# Altium footprint library PcbLib1.PcbLib: 10 footprints
Each footprint in its own frame and in the unit in brackets; x right, y up, seen from the top. Pads: shape width x height; smd on the part's side, far side on the other; paste and mask are expansions set on the pad; w line width, h text height; cw(c..) or ccw(c..) is an arc to the next point about the centre after c.
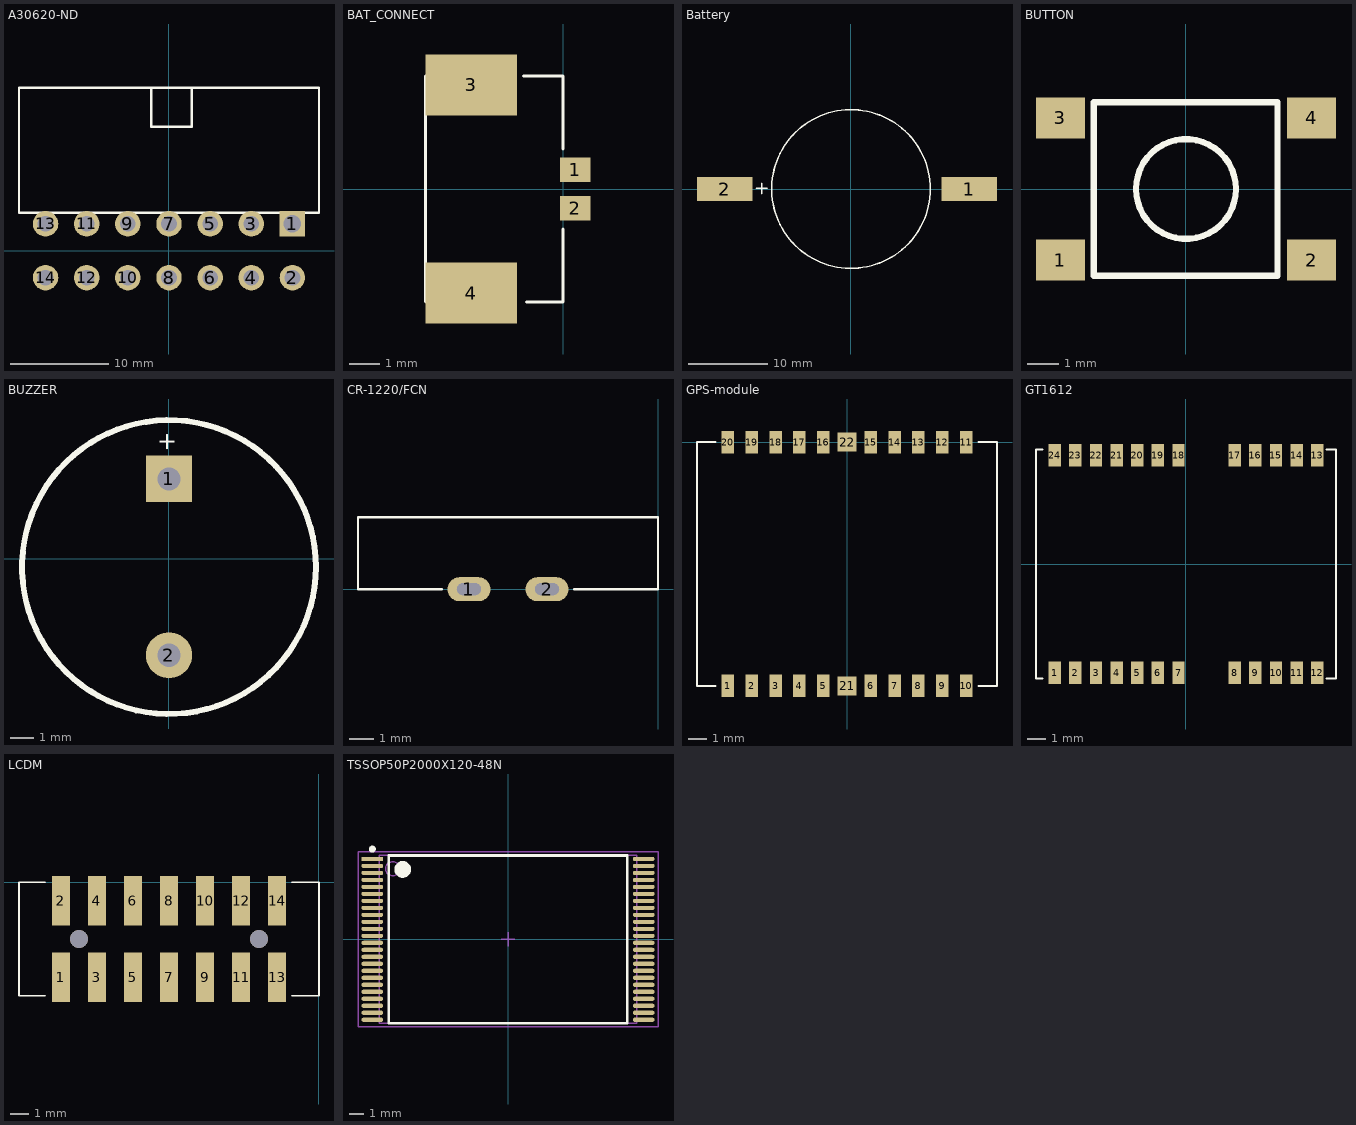
[diagram p0: the footprints below, top view; thin cyan lines are the x and y axes]

## A30620-ND [mm]
pads (14):
  rect 2.599x2.599 hole 1.8: 1(12.59,2.747)
  round 2.599 hole 1.599: 2(12.59,-2.747) 3(8.394,2.747) 4(8.394,-2.747) 5(4.198,2.747) 6(4.198,-2.747) 7(0.002,2.747) 8(0.002,-2.747) 9(-4.194,2.747) 10(-4.194,-2.747) 11(-8.39,2.747) 12(-8.39,-2.747) 13(-12.59,2.747) 14(-12.59,-2.747)
Top Overlay:
  lines w0.254: -1.798,16.634 -1.798,12.638 2.298,12.638 2.298,16.634 ; -15.298,3.847 -15.298,16.634 15.302,16.634 15.302,3.847 -15.298,3.847
3D body: height 12.8, standoff -2, extent -15.78,-3.28 15.32,16.855

## BAT_CONNECT [mm]
pads (4):
  rect 1x0.8 smd: 1(0.4,0.635) 2(0.4,-0.635)
  rect 3x2 smd: 3(-3,3.4) 4(-3,-3.4)
Top Overlay:
  lines w0.1: -4.5,3.69 -4.5,-3.67 -4.48,-3.69 ; -1.29,3.69 0,3.69 0,1.3 ; -1.19,-3.69 0,-3.69 0,-1.3

## Battery [mm]
pads (2):
  rect 7x3 smd: 1(15,0) 2(-16,0)
Top Overlay:
  circle w0.2: c0,0 r10.05
  lines w0.2: -12,0.1 -10.6,0.1 ; -11.3,-0.6 -11.3,0.7

## BUTTON [mm]
pads (4):
  rect 1.55x1.3 smd: 1(-3.975,-2.25) 2(3.975,-2.25) 3(-3.975,2.25) 4(3.975,2.25)
Top Overlay:
  circle w0.2: c0,0 r1.581
  lines w0.2: -2.925,-2.75 -2.925,2.75 2.9,2.75 2.9,-2.75 -2.925,-2.75

## BUZZER [mm]
pads (2):
  rect 2x2 hole 1: 1(0,3.46)
  round 2 hole 1: 2(0,-4.16)
Top Overlay:
  circle w0.254: c0,-0.35 r6.35
  text "+" at -0.4,5.5 h0.76
3D body: height 7.5, standoff -2, extent -5.969,-6.35 6.017,5.65

## CR-1220/FCN [mm]
pads (2):
  oval 1.8x1 hole 0.5 slot 1 at 0 deg: 1(-7.875,0) 2(-4.625,0)
Top Overlay:
  lines w0.1: -9,0 -12.5,0 -12.5,3 0,3 0,0 -3.5,0

## GPS-module [mm]
pads (22):
  rect 0.66x1.2 smd: 1(-6.35,-13) 2(-5.08,-13) 3(-3.81,-13) 4(-2.54,-13) 5(-1.27,-13) 6(1.27,-13) 7(2.54,-13) 8(3.81,-13) 9(5.08,-13) 10(6.35,-13) 11(6.35,0) 12(5.08,0) 13(3.81,0) 14(2.54,0) 15(1.27,0) 16(-1.27,0) 17(-2.54,0) 18(-3.81,0) 19(-5.08,0) 20(-6.35,0)
  rect 1.02x1 smd: 21(0,-13) 22(0,0)
Top Overlay:
  lines w0.1: -7,-13 -8,-13 -8,0 -7,0 ; 7,-13 8,-13 8,0 7,0
3D body: height 2.5, standoff 0.2, extent -8,-13 8,0

## GT1612 [mm]
pads (24):
  rect 0.66x1.2 smd: 1(-7,-5.8) 2(-5.9,-5.8) 3(-4.8,-5.8) 4(-3.7,-5.8) 5(-2.6,-5.8) 6(-1.5,-5.8) 7(-0.4,-5.8) 8(2.6,-5.8) 9(3.7,-5.8) 10(4.8,-5.8) 11(5.9,-5.8) 12(7,-5.8) 13(7,5.8) 14(5.9,5.8) 15(4.8,5.8) 16(3.7,5.8) 17(2.6,5.8) 18(-0.4,5.8) 19(-1.5,5.8) 20(-2.6,5.8) 21(-3.7,5.8) 22(-4.8,5.8) 23(-5.9,5.8) 24(-7,5.8)
Top Overlay:
  lines w0.1: -7.65,-6.1 -8,-6.1 -8,6.1 -7.65,6.1 ; 7.5,-6.1 8,-6.1 8,6.1 7.5,6.1
3D body: height 2.5, standoff 0.2, extent -8,-6.1 8,6.1

## LCDM [mm]
pads (14):
  rect 1x2.75 smd: 1(-14.325,-5.275) 2(-14.325,-1.025) 3(-12.325,-5.275) 4(-12.325,-1.025) 5(-10.325,-5.275) 6(-10.325,-1.025) 7(-8.325,-5.275) 8(-8.325,-1.025) 9(-6.325,-5.275) 10(-6.325,-1.025) 11(-4.325,-5.275) 12(-4.325,-1.025) 13(-2.325,-5.275) 14(-2.325,-1.025)
via -13.325,-3.15 diameter 1 hole 1
via -3.325,-3.15 diameter 1 hole 1
Top Overlay:
  lines w0.1: -15.2,-6.3 -16.65,-6.3 -16.65,0 -15.2,0 ; -1.5,-6.3 0,-6.3 0,0 -1.5,0

## TSSOP50P2000X120-48N [mm] "TSSOP, 48-Leads, Body 12.0x18.4mm (max), Pitch 0.50mm, IPC Medium Density"
height 1.2
pads (48):
  rect 1.55x0.3 smd: 1(-9.7,5.75)
  oval 1.55x0.3 smd: 2(-9.7,5.25) 3(-9.7,4.75) 4(-9.7,4.25) 5(-9.7,3.75) 6(-9.7,3.25) 7(-9.7,2.75) 8(-9.7,2.25) 9(-9.7,1.75) 10(-9.7,1.25) 11(-9.7,0.75) 12(-9.7,0.25) 13(-9.7,-0.25) 14(-9.7,-0.75) 15(-9.7,-1.25) 16(-9.7,-1.75) 17(-9.7,-2.25) 18(-9.7,-2.75) 19(-9.7,-3.25) 20(-9.7,-3.75) 21(-9.7,-4.25) 22(-9.7,-4.75) 23(-9.7,-5.25) 24(-9.7,-5.75) 25(9.7,-5.75) 26(9.7,-5.25) 27(9.7,-4.75) 28(9.7,-4.25) 29(9.7,-3.75) 30(9.7,-3.25) 31(9.7,-2.75) 32(9.7,-2.25) 33(9.7,-1.75) 34(9.7,-1.25) 35(9.7,-0.75) 36(9.7,-0.25) 37(9.7,0.25) 38(9.7,0.75) 39(9.7,1.25) 40(9.7,1.75) 41(9.7,2.25) 42(9.7,2.75) 43(9.7,3.25) 44(9.7,3.75) 45(9.7,4.25) 46(9.7,4.75) 47(9.7,5.25) 48(9.7,5.75)
Top Overlay:
  circle w0.6: c-7.525,5 r0.3
  circle w0.25: c-9.7,6.45 r0.125
  lines w0.2: -8.525,-6 8.525,-6 8.525,6 -8.525,6 -8.525,-6
Mechanical 13:
  circle w0.1: c-8.25,5.05 r0.5
  lines w0.1: -9.2,-6 9.2,-6 9.2,6 -9.2,6 -9.2,-6
Mechanical 15:
  lines w0.1: -0.5,0 0.5,0 ; 0,-0.5 0,0.5 ; -10.725,-6.25 10.725,-6.25 10.725,6.25 -10.725,6.25 -10.725,-6.25
3D body: height 1.2, standoff 0, extent -10.1,-6.05 10.1,6.05